# EAGLE library part TS912D (library custom)
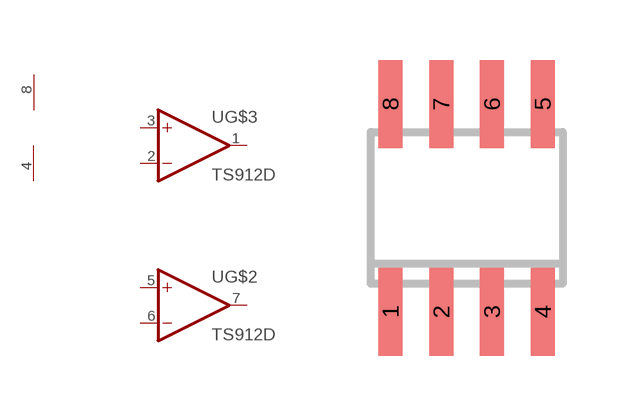
[diagram p2: symbol with the pads of SO08; footprint SO08]

Designator prefix -; gates G$2=OP G$1=PWR G$3=OP

## TS912D  [SO08]
1  G$3:OUT  out
2  G$3:-IN  in
3  G$3:+IN  in
4  G$1:V-  pwr
5  G$2:+IN  in
6  G$2:-IN  in
7  G$2:OUT  out
8  G$1:V+  pwr

## Footprint SO08 (pad centres in mm)
smd 0.6 x 2.2: 1 -1.905,-2.6; 2 -0.635,-2.6; 3 0.635,-2.6; 4 1.905,-2.6; 5 1.905,2.6; 6 0.635,2.6; 7 -0.635,2.6; 8 -1.905,2.6